# Altium integrated library Everlight.IntLib: 1 symbol
Pins are listed as number, name and electrical type; pins without a type are passive.

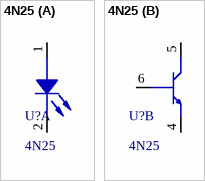
[diagram p0: symbol 4N25]

## 4N25
designator U?
Photocoupler
footprint 4N25S (S)
part A pins: 1, 2
part B pins: 4, 5, 6